# EAGLE library part PTSM-0,5-2,5 (library Federkraftklemme - PTSM 0,5_8_2,5)
Name des Bauteiles: -->Federkraftklemme PTSM-05-2,5 Daten:Rastermaß : 2,5 , Leiterquerschnitt : 0,5 mm² Artikelnummer:#keine feste Artikelnummer vorhanden / Atikel nicht lagermäßig vorhanden! Datenblatt:keine Angabe __________________________________________ generated by Eagle Description Tool am : 28.11.2013 07:15:23 erstellt von: Hm
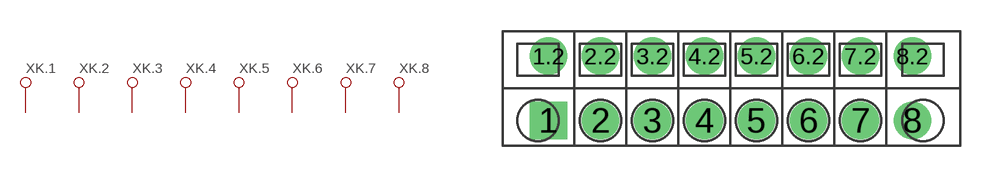
[diagram p0: symbol with the pads of PTSM; footprint PTSM]

Designator prefix XK; gates .1=1 .2=1 .3=1 .4=1 .5=1 .6=1 .7=1 .8=1

## PTSM-0,5-2,5PTSM/0.5/8-2,5VTHR  [PTSM]
1  .1:.1
1.2  .1:.1
2  .2:.1
2.2  .2:.1
3  .3:.1
3.2  .3:.1
4  .4:.1
4.2  .4:.1
5  .5:.1
5.2  .5:.1
6  .6:.1
6.2  .6:.1
7  .7:.1
7.2  .7:.1
8  .8:.1
8.2  .8:.1

## Footprint PTSM (pad centres in mm)
drill 1.2 square: 1 0,0
drill 1.2: 1.2 0,3.1; 2 2.5,0; 2.2 2.5,3.1; 3 5,0; 3.2 5,3.1; 4 7.5,0; 4.2 7.5,3.1; 5 10,0; 5.2 10,3.1; 6 12.5,0; 6.2 12.5,3.1; 7 15,0; 7.2 15,3.1; 8 17.5,0; 8.2 17.5,3.1